# Altium integrated library PULSE COUNTER.IntLib: 22 symbols
Pins are listed as number, name and electrical type; pins without a type are passive.

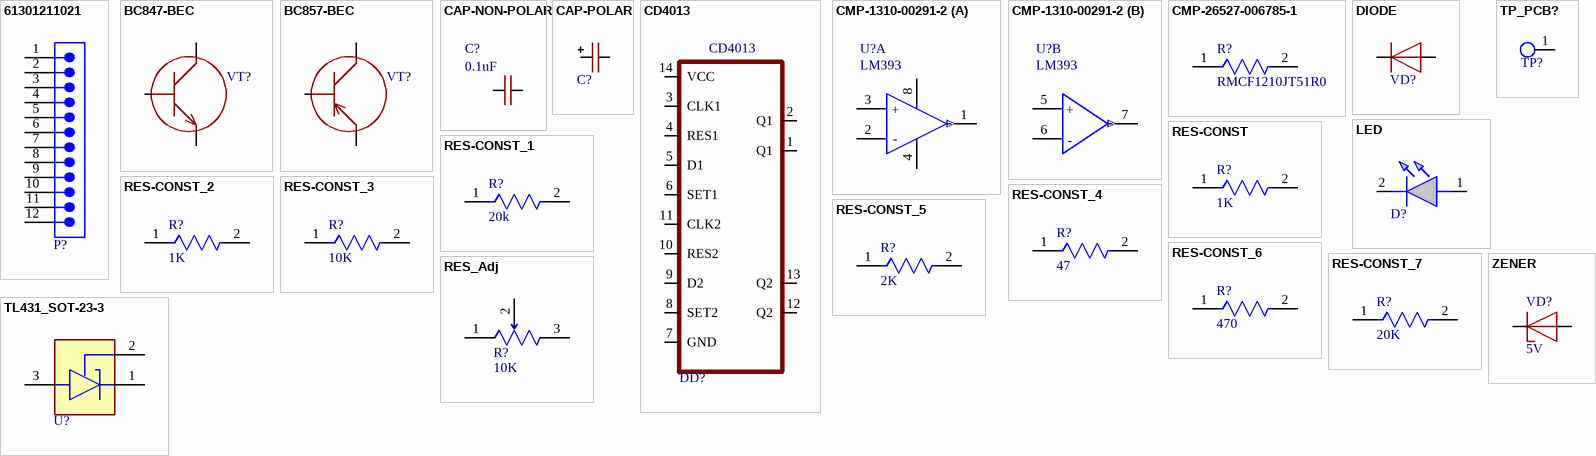
[diagram p0: symbols 61301211021 to ZENER]

## 61301211021
designator P?  (value not drawn)
WR-PHD Pin Header, THT, Angled, pitch 2.54mm, 1 Row, 12P; Manufacturer: Wurth Elektronik; Contact Resistance: 20mΩ; Rated Current: 3A; Working Voltage: 250V; Withstanding Voltage: 500V; ComponentLink1Description: Website Link; ComponentLink1URL: https://www.we-online.com/redexpert/article/61301211021?ad; ComponentLink2Description: Datasheet Link; ComponentLink2URL: https://www.we-online.com/redexpert/spec/61301211021?ad; Manufacturer Part Number: 61301211021; Category: Board-to-Board Connectors; Match Code: WR-PHD; Mount: Through Hole; Operating Temperature Max: 105°C; Operating Temperature Min: -40°C; Packaging: Bag; Gender: Pin Header; Number of Pins: 12; Number of Rows: 1; Orientation: Angled; Pitch: 2.54mm
footprint 61301211021
pins: 1, 2, 3, 4, 5, 6, 7, 8, 9, 10, 11, 12

## BC847-BEC
designator VT?  (value not drawn)
footprint SOT23-3
pins: 1 B, 2 E, 3 C

## BC857-BEC
designator VT?  (value not drawn)
footprint SOT23-3
pins: 1 B, 2 E, 3 C

## CAP-NON-POLAR
designator C?, comment 0.1uF
footprint CAP-0402
footprint CAP-0201
footprint CAP-0603
footprint CAP-0805
footprint CAP-1206
footprint CAP_1.5uf_400V
footprint CAP_3.3uF_630V
footprint CAP_4.7uF_630V
pins: 1, 2

## CAP-POLAR
designator C?  (value not drawn)
footprint CAPPOL-30x35
footprint CAPPOL8x12
footprint CAPPOL-12x25
footprint CAPPOL-10x20
footprint CAP-TAN-A
footprint CAP-TAN-B
footprint CAP-TAN-B2
footprint CAP-TAN-C
footprint CAP-TAN-D
footprint CAP-TAN-R
footprint CAP-TAN-X
footprint CAP 100uF_500V 22x40mm
footprint CAPPOL-16x25
footprint CAP_POL_16x40
footprint CAPPOL-18x40
footprint SIZE_EEE
pins: 1 +, 2 -

## CD4013
designator DD?
footprint SO16-150
footprint SO14-150
pins: 1 Q1, 2 Q1, 3 CLK1, 4 RES1, 5 D1, 6 SET1, 7 GND, 8 SET2, 9 D2, 10 RES2, 11 CLK2, 12 Q2, 13 Q2, 14 VCC

## CMP-1310-00291-2
designator U?, comment LM393
IC OPAMP GP 2 CIRCUIT 8SOIC; Gain Bandwidth Product: 1MHz; Number of Circuits: 2; Min Supply Voltage: 3V; Slew Rate: 0.6V/µs; Max Dual Supply Voltage: 16V; Common Mode Rejection Ratio: 65dB; Input Bias Current: 250nA; Min Dual Supply Voltage: 1.5V; Dual Supply Voltage: 9V; Operating Supply Current: 1.5mA; Output Current: 40mA; Input Offset Voltage (Vos): 7mV; Nominal Supply Current: 1.2mA; Voltage Gain: 100dB; Max Supply Voltage: 32V; Width: 4mm; Number of Pins: 8; Min Operating Temperature: 0°C; REACH SVHC: No SVHC; Contact Plating: Tin; Lead Free: Lead Free; Halogen Free: Halogen Free; Power Supply Rejection Ratio (PSRR): 65dB; Operating Supply Voltage: 16V; Package Quantity: 2500; Max Operating Temperature: 70°C; Case/Package: SOIC; Height: 1.5mm; Packaging: Tape and Reel; Radiation Hardening: No; Number of Channels: 2; Bandwidth: 1MHz; Length: 5mm; Number of Elements: 2; Number of Amplifiers: 2; Output Current per Channel: 40mA
footprint FP-751-07-IPC_C
footprint FP-751-07-IPC_A
footprint FP-751-07-MFG
footprint FP-751-07-IPC_B
part A pins: 1 OUTPUT A (out), 2 INPUT A- (hiz), 3 INPUT A+ (hiz), 4 VEE/GND (power), 8 VCC (power)
part B pins: 5 INPUT B+ (hiz), 6 INPUT B- (hiz), 7 OUTPUT B (out)
part A text: +; -
part B text: +; -

## CMP-26527-006785-1
designator R?, comment RMCF1210JT51R0
51Ω ±5% 0.5W 1210 Thick Film Chip Resistor AEC-Q200 compliant; Temperature Coefficient: 200ppm/°C; Resistance: 51R; Max Power Dissipation: 500mW; Case Code (Metric): 3225; Height: 0.028inch; Mount: Surface Mount; Max Operating Temperature: 155°C; Min Operating Temperature: -55°C; Length: 0.126inch; Features: Automotive AEC-Q200; Number of Terminations: 2; Width: 0.098inch; Case Code (Imperial): 1210; Packaging: Tape and Reel; Series: RMCF; Tolerance: 5%; Radiation Hardening: No; Contact Plating: Tin; RoHS Compliant: Yes; Case/Package: 1210; Lead Free: Lead Free; Resistor Type: Thick Film
footprint FP-RMCF1210-IPC_B
footprint FP-RMCF1210-MFG
footprint FP-RMCF1210-IPC_A
footprint FP-RMCF1210-IPC_C
pins: 1, 2

## DIODE
designator VD?  (value not drawn)
footprint DO-214AC, SMA
pins: 1 C, 2 A

## LED
designator D?, comment 151031YS06000  (value not drawn)
WURTH ELEKTRONIK - 151031YS06000 - LED, Yellow, Through Hole, T-1 (3mm), 30 mA, 2 V, 590 nm; Geometry.Height: 5.5mm; Manufacturer_Name: Wurth Elektronik; Manufacturer_Part_Number: 151031YS06000; Mouser Part Number: 710-151031YS06000; Mouser Price/Stock: https://www.mouser.co.uk/ProductDetail/Wurth-Elektronik/151031YS06000?qs=LlUlMxKIyB3xSYYW%252BcuBiQ%3D%3D; Arrow Part Number: *; Arrow Price/Stock: *; Mouser Testing Part Number: *; Mouser Testing Price/Stock: *; Datasheet Link: https://katalog.we-online.de/led/datasheet/151031YS06000.pdf
footprint LED_BLUE
footprint LED_GREEN
footprint Type 3mm_white (THT, LED-3mm, 2pin- Body 4.15mm(max))
footprint LED_YELLOW
footprint LED_RED
footprint LED_3mm_RED
footprint LED_3mm_GREEN
footprint LED_3mm_YELLOW
footprint LED_3mm_WHITE
footprint LED_3mm_BLUE
footprint LED_5mm_BLUE
footprint LED_5mm_RED
footprint LED_5mm_YELLOW
pins: 1 A, 2 K

## RES-CONST
designator R?, comment 1K
10K
footprint RES-0603
footprint RES-0201
footprint RES-1206
footprint RES-0402
footprint RES-0805
footprint RES-2512
footprint RES-3921
footprint RES-2W
footprint RES-2W_2
footprint RES_5W_Ceramic_Yageo
footprint RES_10W
pins: 1, 2

## RES-CONST_1
designator R?, comment 20k
10K
footprint RES-0603
footprint RES-0201
footprint RES-1206
footprint RES-0402
footprint RES-0805
footprint RES-2512
footprint RES-3921
footprint RES-2W
footprint RES-2W_2
footprint RES_5W_Ceramic_Yageo
footprint RES_10W
pins: 1, 2

## RES-CONST_2
designator R?, comment 1K
footprint RES-0603
footprint RES-0201
footprint RES-1206
footprint RES-0402
footprint RES-0805
footprint RES-2512
footprint RES-3921
footprint RES-2W
footprint RES-2W_2
footprint RES_5W_Ceramic_Yageo
footprint RES_10W
pins: 1, 2

## RES-CONST_3
designator R?, comment 10K
footprint RES-0603
footprint RES-0201
footprint RES-1206
footprint RES-0402
footprint RES-0805
footprint RES-2512
footprint RES-3921
footprint RES-2W
footprint RES-2W_2
footprint RES_5W_Ceramic_Yageo
footprint RES_10W
pins: 1, 2

## RES-CONST_4
designator R?, comment 47
10K
footprint RES-0603
footprint RES-0201
footprint RES-1206
footprint RES-0402
footprint RES-0805
footprint RES-2512
footprint RES-3921
footprint RES-2W
footprint RES-2W_2
footprint RES_5W_Ceramic_Yageo
footprint RES_10W
pins: 1, 2

## RES-CONST_5
designator R?, comment 2K
footprint RES-0603
footprint RES-0201
footprint RES-1206
footprint RES-0402
footprint RES-0805
footprint RES-2512
footprint RES-3921
footprint RES-2W
footprint RES-2W_2
footprint RES_5W_Ceramic_Yageo
footprint RES_10W
pins: 1, 2

## RES-CONST_6
designator R?, comment 470
1K
footprint RES-0603
footprint RES-0201
footprint RES-1206
footprint RES-0402
footprint RES-0805
footprint RES-2512
footprint RES-3921
footprint RES-2W
footprint RES-2W_2
footprint RES_5W_Ceramic_Yageo
footprint RES_10W
pins: 1, 2

## RES-CONST_7
designator R?, comment 20K
footprint RES-0603
footprint RES-0201
footprint RES-1206
footprint RES-0402
footprint RES-0805
footprint RES-2512
footprint RES-3921
footprint RES-2W
footprint RES-2W_2
footprint RES_5W_Ceramic_Yageo
footprint RES_10W
pins: 1, 2

## RES_Adj
designator R?, comment 10K
footprint RES_Adj_3296W_Bourns
pins: 1 CCW, 2 WIPER, 3 CW

## TL431_SOT-23-3
designator U?, comment TL431  (value not drawn)
TL431_SOT-23-3
footprint TL431_SOT-23-3(A)
footprint TL431_SOT-23-3(B)
footprint TL431_SOT-23-3(C)
footprint TL431_SOT-23-3(MGF)
pins: 1 C, 2 REF, 3 A

## TP_PCB?
designator TP?
Test_Point
footprint Test_Point
footprint Test_Point
footprint Test_Point
pins: 1 G9

## ZENER
designator VD?, comment 5V
footprint DO-35
footprint DO-017AA
pins: 1 C, 2 A